# Altium footprint library JEDEC_MS-026BBA.PcbLib: 1 footprints
Each footprint in its own frame and in the unit in brackets; x right, y up, seen from the top. Pads: shape width x height; smd on the part's side, far side on the other; paste and mask are expansions set on the pad; w line width, h text height; cw(c..) or ccw(c..) is an arc to the next point about the centre after c.
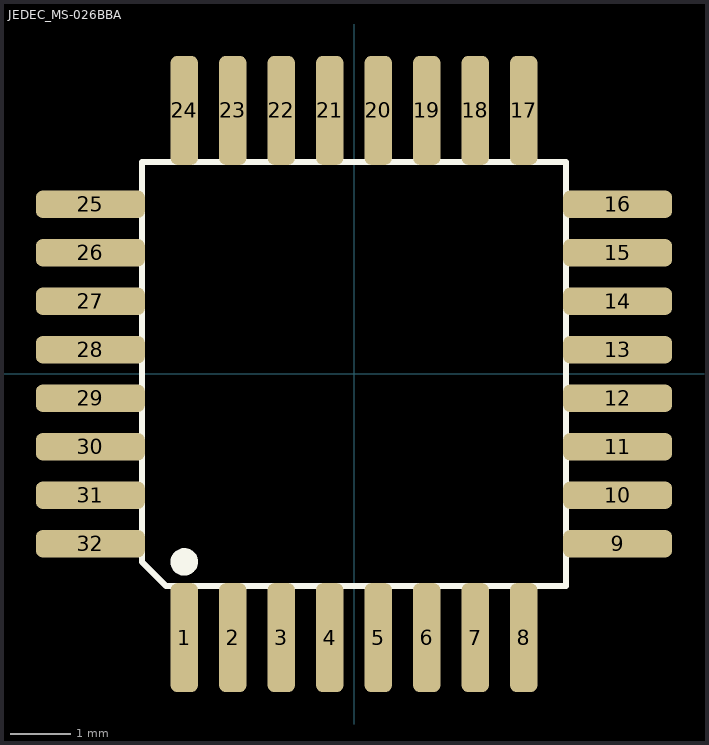
[diagram p0: the footprint, top view; thin cyan lines are the x and y axes]

## JEDEC_MS-026BBA [mm]
pads (32):
  rrect50% 0.45x1.8 smd: 1(-2.8,-4.35) 2(-2,-4.35) 3(-1.2,-4.35) 4(-0.4,-4.35) 5(0.4,-4.35) 6(1.2,-4.35) 7(2,-4.35) 8(2.8,-4.35) 17(2.8,4.35) 18(2,4.35) 19(1.2,4.35) 20(0.4,4.35) 21(-0.4,4.35) 22(-1.2,4.35) 23(-2,4.35) 24(-2.8,4.35)
  rrect50% 1.8x0.45 smd: 9(4.35,-2.8) 10(4.35,-2) 11(4.35,-1.2) 12(4.35,-0.4) 13(4.35,0.4) 14(4.35,1.2) 15(4.35,2) 16(4.35,2.8) 25(-4.35,2.8) 26(-4.35,2) 27(-4.35,1.2) 28(-4.35,0.4) 29(-4.35,-0.4) 30(-4.35,-1.2) 31(-4.35,-2) 32(-4.35,-2.8)
Top Overlay:
  circle w0.254: c-2.8,-3.1 r0.1
  lines w0.1: -3.5,-3.1 -3.1,-3.5 3.5,-3.5 3.5,3.5 -3.5,3.5 -3.5,-3.1
3D body: height 1.45, standoff 0, extent -3.5,-3.5 3.5,3.5
3D body: height 0.8, standoff 0.7, extent -3,-3.8 -2.6,-3.55
3D body: height 0.1, standoff 0, extent -3,-4.6 -2.6,-3.85
3D body: height 0.8, standoff 0, extent -3,-3.85 -2.6,-3.75
3D body: height 0.8, standoff 0, extent -2.2,-3.85 -1.8,-3.75
3D body: height 0.1, standoff 0, extent -2.2,-4.6 -1.8,-3.85
3D body: height 0.8, standoff 0.7, extent -2.2,-3.8 -1.8,-3.55
3D body: height 0.8, standoff 0, extent -1.4,-3.85 -1,-3.75
3D body: height 0.1, standoff 0, extent -1.4,-4.6 -1,-3.85
3D body: height 0.8, standoff 0.7, extent -1.4,-3.8 -1,-3.55
3D body: height 0.8, standoff 0, extent -0.6,-3.85 -0.2,-3.75
3D body: height 0.1, standoff 0, extent -0.6,-4.6 -0.2,-3.85
3D body: height 0.8, standoff 0.7, extent -0.6,-3.8 -0.2,-3.55
3D body: height 0.8, standoff 0, extent 0.2,-3.85 0.6,-3.75
3D body: height 0.1, standoff 0, extent 0.2,-4.6 0.6,-3.85
3D body: height 0.8, standoff 0.7, extent 0.2,-3.8 0.6,-3.55
3D body: height 0.8, standoff 0, extent 1,-3.85 1.4,-3.75
3D body: height 0.1, standoff 0, extent 1,-4.6 1.4,-3.85
3D body: height 0.8, standoff 0.7, extent 1,-3.8 1.4,-3.55
3D body: height 0.8, standoff 0, extent 1.8,-3.85 2.2,-3.75
3D body: height 0.1, standoff 0, extent 1.8,-4.6 2.2,-3.85
3D body: height 0.8, standoff 0.7, extent 1.8,-3.8 2.2,-3.55
3D body: height 0.8, standoff 0, extent 2.6,-3.85 3,-3.75
3D body: height 0.1, standoff 0, extent 2.6,-4.6 3,-3.85
3D body: height 0.8, standoff 0.7, extent 2.6,-3.8 3,-3.55
3D body: height 0.8, standoff 0.7, extent 3.55,2.6 3.8,3
3D body: height 0.1, standoff 0, extent 3.85,2.6 4.6,3
3D body: height 0.8, standoff 0, extent 3.75,2.6 3.85,3
3D body: height 0.8, standoff 0.7, extent 3.55,1.8 3.8,2.2
3D body: height 0.1, standoff 0, extent 3.85,1.8 4.6,2.2
3D body: height 0.8, standoff 0, extent 3.75,1.8 3.85,2.2
3D body: height 0.8, standoff 0.7, extent 3.55,1 3.8,1.4
3D body: height 0.1, standoff 0, extent 3.85,1 4.6,1.4
3D body: height 0.8, standoff 0, extent 3.75,1 3.85,1.4
3D body: height 0.8, standoff 0.7, extent 3.55,0.2 3.8,0.6
3D body: height 0.1, standoff 0, extent 3.85,0.2 4.6,0.6
3D body: height 0.8, standoff 0, extent 3.75,0.2 3.85,0.6
3D body: height 0.8, standoff 0.7, extent 3.55,-0.6 3.8,-0.2
3D body: height 0.1, standoff 0, extent 3.85,-0.6 4.6,-0.2
3D body: height 0.8, standoff 0, extent 3.75,-0.6 3.85,-0.2
3D body: height 0.8, standoff 0.7, extent 3.55,-1.4 3.8,-1
3D body: height 0.1, standoff 0, extent 3.85,-1.4 4.6,-1
3D body: height 0.8, standoff 0, extent 3.75,-1.4 3.85,-1
3D body: height 0.8, standoff 0.7, extent 3.55,-2.2 3.8,-1.8
3D body: height 0.1, standoff 0, extent 3.85,-2.2 4.6,-1.8
3D body: height 0.8, standoff 0, extent 3.75,-2.2 3.85,-1.8
3D body: height 0.8, standoff 0, extent 3.75,-3 3.85,-2.6
3D body: height 0.1, standoff 0, extent 3.85,-3 4.6,-2.6
3D body: height 0.8, standoff 0.7, extent 3.55,-3 3.8,-2.6
3D body: height 0.8, standoff 0.7, extent 2.6,3.55 3,3.8
3D body: height 0.1, standoff 0, extent 2.6,3.85 3,4.6
3D body: height 0.8, standoff 0, extent 2.6,3.75 3,3.85
3D body: height 0.8, standoff 0, extent 1.8,3.75 2.2,3.85
3D body: height 0.1, standoff 0, extent 1.8,3.85 2.2,4.6
3D body: height 0.8, standoff 0.7, extent 1.8,3.55 2.2,3.8
3D body: height 0.8, standoff 0, extent 1,3.75 1.4,3.85
3D body: height 0.1, standoff 0, extent 1,3.85 1.4,4.6
3D body: height 0.8, standoff 0.7, extent 1,3.55 1.4,3.8
3D body: height 0.8, standoff 0, extent 0.2,3.75 0.6,3.85
3D body: height 0.1, standoff 0, extent 0.2,3.85 0.6,4.6
3D body: height 0.8, standoff 0.7, extent 0.2,3.55 0.6,3.8
3D body: height 0.8, standoff 0, extent -0.6,3.75 -0.2,3.85
3D body: height 0.1, standoff 0, extent -0.6,3.85 -0.2,4.6
3D body: height 0.8, standoff 0.7, extent -0.6,3.55 -0.2,3.8
3D body: height 0.8, standoff 0, extent -1.4,3.75 -1,3.85
3D body: height 0.1, standoff 0, extent -1.4,3.85 -1,4.6
3D body: height 0.8, standoff 0.7, extent -1.4,3.55 -1,3.8
3D body: height 0.8, standoff 0, extent -2.2,3.75 -1.8,3.85
3D body: height 0.1, standoff 0, extent -2.2,3.85 -1.8,4.6
3D body: height 0.8, standoff 0.7, extent -2.2,3.55 -1.8,3.8
3D body: height 0.8, standoff 0, extent -3,3.75 -2.6,3.85
3D body: height 0.1, standoff 0, extent -3,3.85 -2.6,4.6
3D body: height 0.8, standoff 0.7, extent -3,3.55 -2.6,3.8
3D body: height 0.8, standoff 0.7, extent -3.8,2.6 -3.55,3
3D body: height 0.1, standoff 0, extent -4.6,2.6 -3.85,3
3D body: height 0.8, standoff 0, extent -3.85,2.6 -3.75,3
3D body: height 0.8, standoff 0, extent -3.85,1.8 -3.75,2.2
3D body: height 0.1, standoff 0, extent -4.6,1.8 -3.85,2.2
3D body: height 0.8, standoff 0.7, extent -3.8,1.8 -3.55,2.2
3D body: height 0.8, standoff 0, extent -3.85,1 -3.75,1.4
3D body: height 0.1, standoff 0, extent -4.6,1 -3.85,1.4
3D body: height 0.8, standoff 0.7, extent -3.8,1 -3.55,1.4
3D body: height 0.8, standoff 0, extent -3.85,0.2 -3.75,0.6
3D body: height 0.1, standoff 0, extent -4.6,0.2 -3.85,0.6
3D body: height 0.8, standoff 0.7, extent -3.8,0.2 -3.55,0.6
3D body: height 0.8, standoff 0, extent -3.85,-0.6 -3.75,-0.2
3D body: height 0.1, standoff 0, extent -4.6,-0.6 -3.85,-0.2
3D body: height 0.8, standoff 0.7, extent -3.8,-0.6 -3.55,-0.2
3D body: height 0.8, standoff 0, extent -3.85,-1.4 -3.75,-1
3D body: height 0.1, standoff 0, extent -4.6,-1.4 -3.85,-1
3D body: height 0.8, standoff 0.7, extent -3.8,-1.4 -3.55,-1
3D body: height 0.8, standoff 0, extent -3.85,-2.2 -3.75,-1.8
3D body: height 0.1, standoff 0, extent -4.6,-2.2 -3.85,-1.8
3D body: height 0.8, standoff 0.7, extent -3.8,-2.2 -3.55,-1.8
3D body: height 0.8, standoff 0, extent -3.85,-3 -3.75,-2.6
3D body: height 0.1, standoff 0, extent -4.6,-3 -3.85,-2.6
3D body: height 0.8, standoff 0.7, extent -3.8,-3 -3.55,-2.6
3D body: height 1.46, standoff 1.45, extent -3.023,-3.325 -2.575,-2.875